# Altium schematic symbol library Header 2X16.SchLib: 1 symbol
Pins are listed as number, name and electrical type; pins without a type are passive.

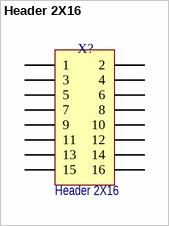
[diagram p0: symbol Header 2X16]

## Header 2X16
designator X?
Header, 16-Pin, Dual row; Потребление, Вт: 0.0; Назначение: Header, 16-Pin, Dual row; Наименование: Header 2X16
footprint PBD-16-narrow
pins: 1, 2, 3, 4, 5, 6, 7, 8, 9, 10, 11, 12, 13, 14, 15, 16